# Altium schematic symbol library USB4145-03-0230-C.SchLib: 2 symbols
Pins are listed as number, name and electrical type; pins without a type are passive.

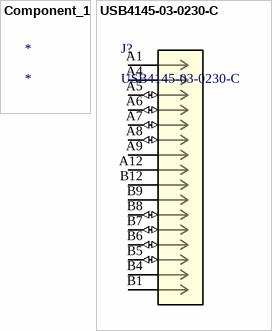
[diagram p0: symbols Component_1 to USB4145-03-0230-C]

## Component_1
designator *

## USB4145-03-0230-C
designator J?
No Description Available; Manufacturer_Name: Global Connector Technology; Copyright: Copyright (C) 2025 Ultra Librarian. All rights reserved.; Manufacturer_Part_Number: USB4145-03-0230-C; RefDes: RefDes; Type: Type
footprint CONN_USB4145-03-0230-C_GCT
pins: A1 GND (power), A4 VBUS, A5 CC1 (io), A6 DP1 (io), A7 DN1 (io), A8 SBU1 (io), A9 VBUS, A12 GND (power), B1 GND (power), B4 VBUS, B5 CC2 (io), B6 DP2 (io), B7 DN2 (io), B8 SBU2 (io), B9 VBUS, B12 GND (power)